# Altium integrated library VNH5019A-E.IntLib: 1 symbol
Pins are listed as number, name and electrical type; pins without a type are passive.

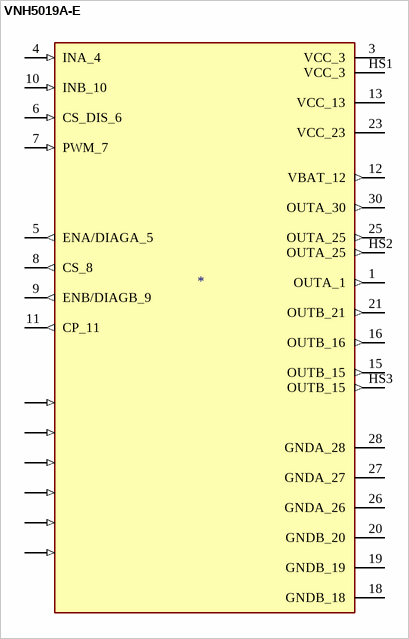
[diagram p0: symbol VNH5019A-E]

## VNH5019A-E
designator ?
Motor Driver Power MOSFET Parallel, PWM MultiPowerSO-30; MP: VNH5019A-E; MF: STMicroelectronics; Value: *; Availability: Unavailable; Price: None; Package: PowerSOP-30 STMicroelectronics; SnapEDA_Link: https://www.snapeda.com/parts/VNH5019A-E/STMicroelectronics/view-part/231156/?ref=snap
footprint IC_MULTIPOWERSO-30TR
pins: 1 OUTA_1 (out), 2 N.C._2 (in), 3 VCC_3 (power), 4 INA_4 (in), 5 ENA/DIAGA_5 (out), 6 CS_DIS_6 (in), 7 PWM_7 (in), 8 CS_8 (out), 9 ENB/DIAGB_9 (out), 10 INB_10 (in), 11 CP_11 (out), 12 VBAT_12 (out), 13 VCC_13 (power), 14 NC_14 (in), 15 OUTB_15 (out), 16 OUTB_16 (out), 17 NC_17 (in), 18 GNDB_18 (power), 19 GNDB_19 (power), 20 GNDB_20 (power), 21 OUTB_21 (out), 22 NC_22 (in), 23 VCC_23 (power), 24 NC_24 (in), 25 OUTA_25 (out), 26 GNDA_26 (power), 27 GNDA_27 (power), 28 GNDA_28 (power), 29 N.C._29 (in), 30 OUTA_30 (out), HS1 VCC_3 (power), HS2 OUTA_25 (out), HS3 OUTB_15 (out)